# Altium schematic symbol library libysk_mechanical.SchLib: 3 symbols
Pins are listed as number, name and electrical type; pins without a type are passive.

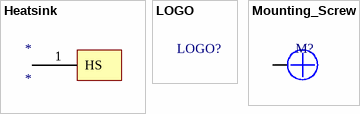
[diagram p0: symbols Heatsink to Mounting_Screw]

## Heatsink
designator *
footprint HS_2510 (Heatsink, 25x25, height 10mm)
pins: 1 HS

## LOGO
designator LOGO?  (graphical)
footprint LOGO_designed_by_ysk ("Designed by ysk" logo)

## Mounting_Screw
designator M?
footprint MOUNT_HOLE_3.2 (mouting hole for corners, D=3.20mm)
pins: 1